# EAGLE library part RJ12 (library gumyns)
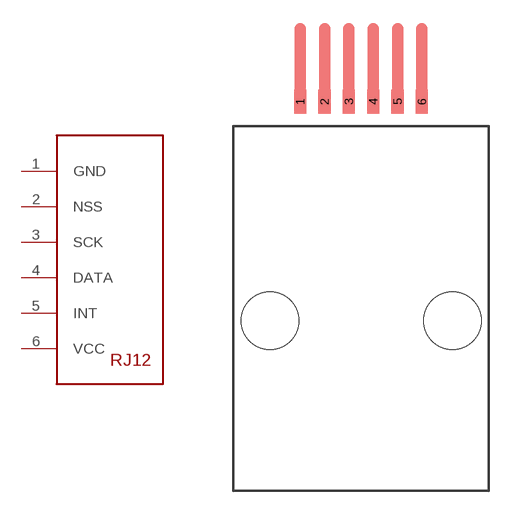
[diagram p0: symbol with the pads of RJ12_SMD; footprint RJ12_SMD]

Designator prefix -

## RJ12SMD  [RJ12_SMD]
1  GND
2  NSS
3  SCK
4  DATA
5  INT
6  VCC

## Footprint RJ12_SMD (pad centres in mm)
smd 0.635 x 1.27: 1 -2.857,5.08; 2 -1.587,5.08; 3 -0.318,5.08; 4 0.953,5.08; 5 2.223,5.08; 6 3.493,5.08
hole 3 at -4.445,-6.35
hole 3 at 5.08,-6.35